# Altium footprint library zxevo.PcbLib: 77 footprints (part 2 of 5)
Each footprint in its own frame and in the unit in brackets; x right, y up, seen from the top. Pads: shape width x height; smd on the part's side, far side on the other; paste and mask are expansions set on the pad; w line width, h text height; cw(c..) or ccw(c..) is an arc to the next point about the centre after c.
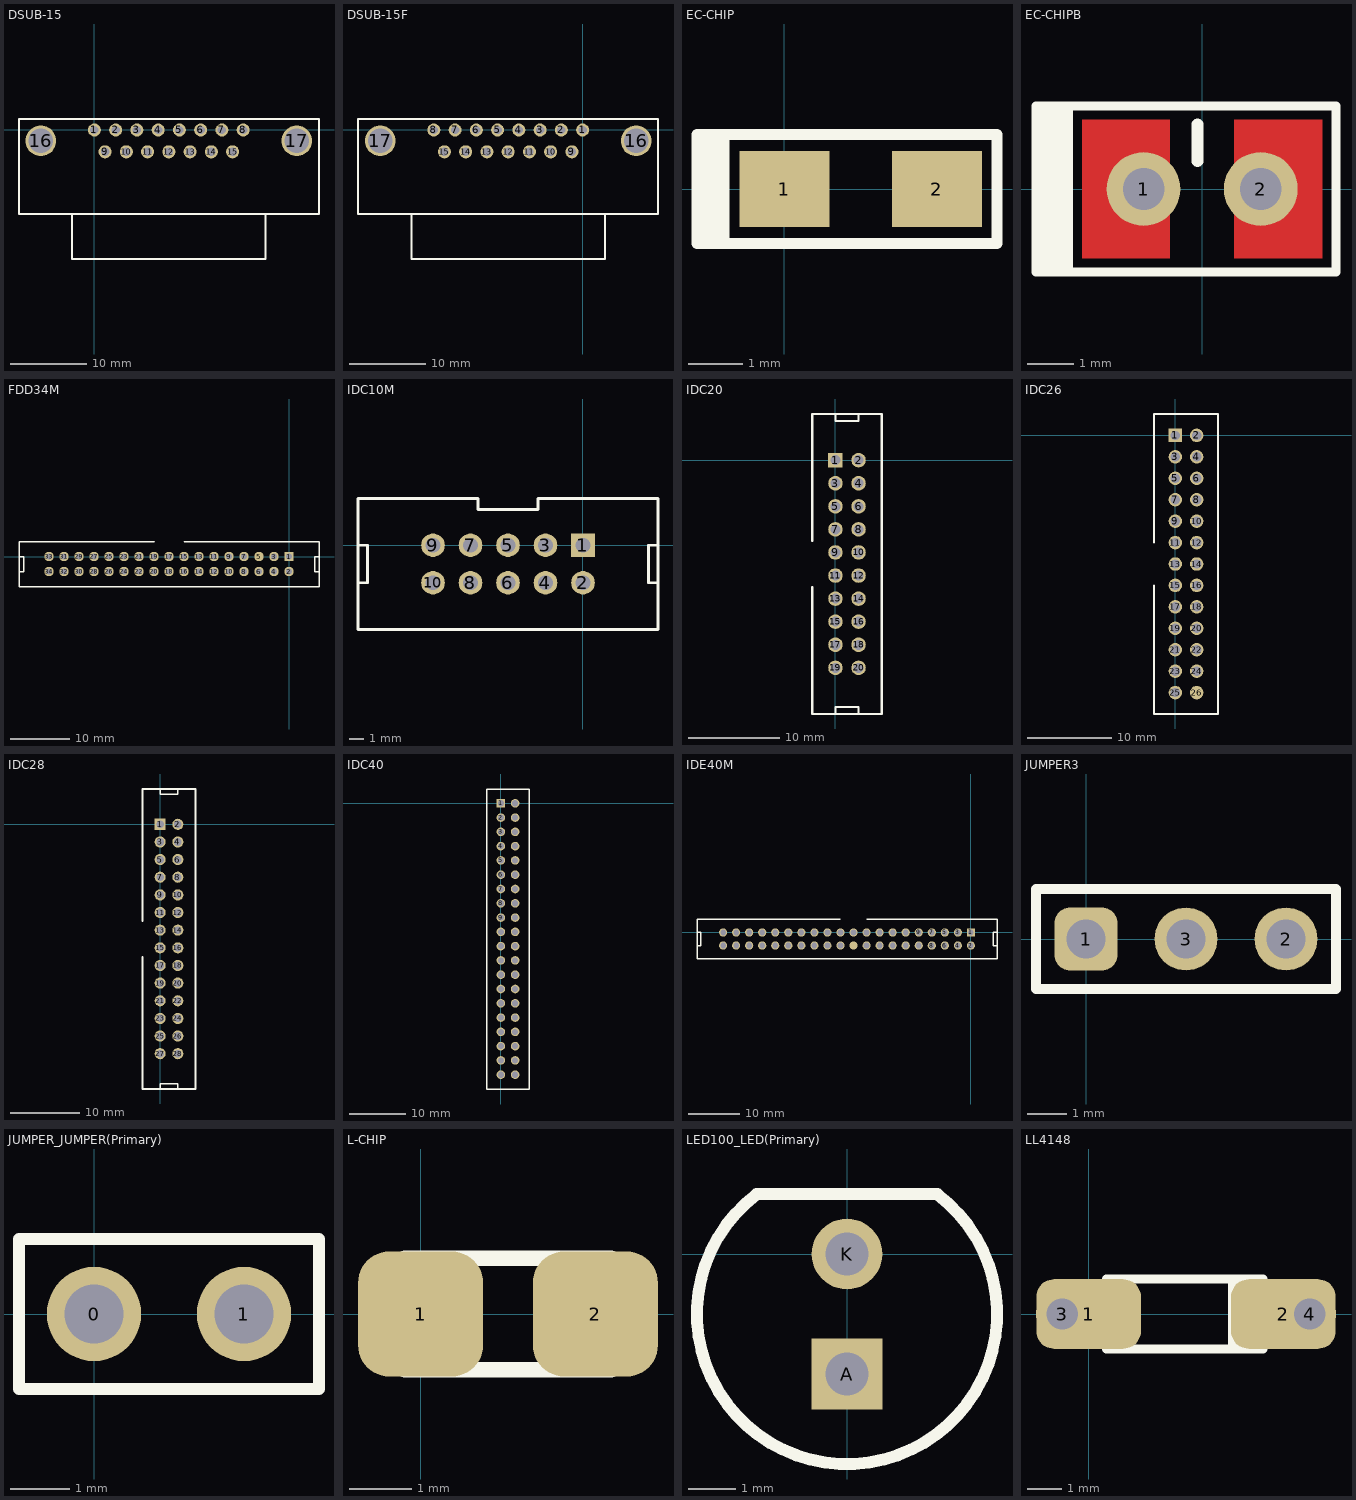
[diagram p1: the footprints below, top view; thin cyan lines are the x and y axes]

## DSUB-15 [mm]
pads (17):
  round 1.7 hole 1.1: 1(0,0) 2(2.77,0) 3(5.54,0) 4(8.31,0) 5(11.08,0) 6(13.85,0) 7(16.62,0) 8(19.39,0) 9(1.385,-2.84) 10(4.155,-2.84) 11(6.925,-2.84) 12(9.695,-2.84) 13(12.465,-2.84) 14(15.235,-2.84) 15(18.005,-2.84)
  round 4 hole 3.2: 16(-6.98,-1.42) 17(26.37,-1.42)
Top Overlay:
  lines w0.254: -2.93,-10.94 -2.93,-16.84 22.27,-16.84 22.27,-10.94 ; -9.83,-10.94 -9.83,1.46 29.27,1.46 29.27,-10.94 -9.83,-10.94

## DSUB-15F [mm]
pads (17):
  round 1.7 hole 1.1: 1(0,0) 2(-2.77,0) 3(-5.54,0) 4(-8.31,0) 5(-11.08,0) 6(-13.85,0) 7(-16.62,0) 8(-19.39,0) 9(-1.385,-2.84) 10(-4.155,-2.84) 11(-6.925,-2.84) 12(-9.695,-2.84) 13(-12.465,-2.84) 14(-15.235,-2.84) 15(-18.005,-2.84)
  round 4 hole 3.2: 16(6.98,-1.42) 17(-26.37,-1.42)
Top Overlay:
  lines w0.254: -22.27,-10.94 -22.27,-16.84 2.93,-16.84 2.93,-10.94 ; -29.27,-10.94 -29.27,1.46 9.83,1.46 9.83,-10.94 -29.27,-10.94

## EC-CHIP [mm]
pads (2):
  rect 1.65x1.4 smd: 1(0,0) 2(2.8,0)
Top Overlay:
  rectangle: -1.6,-1 -1,1
  lines w0.2: -1.6,-1 -1.6,1 3.9,1 3.9,-1 -1.6,-1
3D body "T520A476M006ATE150.STEP": height 1.8, standoff 0, extent -0.2,-0.8 3,0.8

## EC-CHIPB [mm]
pads (2):
  round 1.6 hole 0.9 unplated: 1(-1.27,0) 2(1.27,0)
Top Layer:
  region: -2.6,-1.5 -0.7,-1.5 -0.7,1.5 -2.6,1.5
  region: 2.6,1.5 0.7,1.5 0.7,-1.5 2.6,-1.5
Top Overlay:
  rectangle: -3.6,-1.8 -2.8,1.8
  lines w0.2: -3.6,-1.8 -3.6,1.8 2.9,1.8 2.9,-1.8 -3.6,-1.8
  lines w0.254: -0.1,0.6 -0.1,1.4

## FDD34M [mm]
pads (34):
  rect 1.6x1.6 hole 1.1: 1(0,0)
  round 1.6 hole 1.1: 2(0,-2.54) 3(-2.54,0) 4(-2.54,-2.54) 6(-5.08,-2.54) 7(-7.62,0) 8(-7.62,-2.54) 9(-10.16,0) 10(-10.16,-2.54) 11(-12.7,0) 12(-12.7,-2.54) 13(-15.24,0) 14(-15.24,-2.54) 15(-17.78,0) 16(-17.78,-2.54) 17(-20.32,0) 18(-20.32,-2.54) 19(-22.86,0) 20(-22.86,-2.54) 21(-25.4,0) 22(-25.4,-2.54) 23(-27.94,0) 24(-27.94,-2.54) 25(-30.48,0) 26(-30.48,-2.54) 27(-33.02,0) 28(-33.02,-2.54) 29(-35.56,0) 30(-35.56,-2.54) 31(-38.1,0) 32(-38.1,-2.54) 33(-40.64,0) 34(-40.64,-2.54)
  round 1.6 smd: 5(-5.08,0)
Top Overlay:
  lines w0.254: -45.72,-2.54 -44.958,-2.54 -44.958,0 -45.72,0 ; -22.86,2.54 -45.72,2.54 -45.72,-5.08 5.08,-5.08 5.08,2.54 -17.78,2.54 ; 5.08,-2.54 4.318,-2.54 4.318,0 5.08,0

## IDC10M [mm]
pads (10):
  rect 1.6x1.6 hole 1: 1(0,0)
  round 1.6 hole 1: 2(0,-2.54) 3(-2.54,0) 4(-2.54,-2.54) 5(-5.08,0) 6(-5.08,-2.54) 7(-7.62,0) 8(-7.62,-2.54) 9(-10.16,0) 10(-10.16,-2.54)
Top Overlay:
  lines w0.2: -15.24,-2.54 -14.605,-2.54 -14.605,0 -15.24,0 ; 5.08,-2.54 4.445,-2.54 4.445,0 5.08,0 ; -15.24,-5.715 -15.24,3.175 -7.112,3.175 -7.112,2.413 -3.048,2.413 -3.048,3.175 5.08,3.175 5.08,-5.715 -15.24,-5.715
3D body "2-1761603-3 (IDC 10M).stp": height 9, standoff -2.81, extent -15.21,-6.1 5.11,3.12

## IDC20 [mm]
pads (20):
  rect 1.6x1.6 hole 1.1: 1(0,0)
  round 1.6 hole 1.1: 2(2.54,0) 3(0,-2.54) 4(2.54,-2.54) 5(0,-5.08) 6(2.54,-5.08) 7(0,-7.62) 8(2.54,-7.62) 9(0,-10.16) 10(2.54,-10.16) 11(0,-12.7) 12(2.54,-12.7) 13(0,-15.24) 14(2.54,-15.24) 15(0,-17.78) 16(2.54,-17.78) 17(0,-20.32) 18(2.54,-20.32) 19(0,-22.86) 20(2.54,-22.86)
Top Overlay:
  lines w0.254: -2.54,-13.97 -2.54,-27.94 5.08,-27.94 5.08,5.08 -2.54,5.08 -2.54,-8.89 ; 0,-27.94 0,-27.178 2.54,-27.178 2.54,-27.94 ; 0,5.08 0,4.318 2.54,4.318 2.54,5.08
3D body "User Library-DS1013-20S (IDC-20MS CONNFLY).step": height 9.1, standoff -3.5, extent -3.25,-27.975 5.65,5.225

## IDC26 [mm]
pads (26):
  rect 1.6x1.6 hole 1.1: 1(0,0)
  round 1.6 hole 1.1: 2(2.54,0) 3(0,-2.54) 4(2.54,-2.54) 5(0,-5.08) 6(2.54,-5.08) 7(0,-7.62) 8(2.54,-7.62) 9(0,-10.16) 10(2.54,-10.16) 11(0,-12.7) 12(2.54,-12.7) 13(0,-15.24) 14(2.54,-15.24) 15(0,-17.78) 16(2.54,-17.78) 17(0,-20.32) 18(2.54,-20.32) 19(0,-22.86) 20(2.54,-22.86) 21(0,-25.4) 22(2.54,-25.4) 23(0,-27.94) 24(2.54,-27.94) 25(0,-30.48)
  round 1.6 smd: 26(2.54,-30.48)
Top Overlay:
  lines w0.254: -2.54,-17.78 -2.54,-33.02 5.08,-33.02 5.08,2.54 -2.54,2.54 -2.54,-12.7

## IDC28 [mm]
pads (28):
  rect 1.6x1.6 hole 1.1: 1(0,0)
  round 1.6 hole 1.1: 2(2.54,0) 3(0,-2.54) 4(2.54,-2.54) 5(0,-5.08) 6(2.54,-5.08) 7(0,-7.62) 8(2.54,-7.62) 9(0,-10.16) 10(2.54,-10.16) 11(0,-12.7) 12(2.54,-12.7) 13(0,-15.24) 14(2.54,-15.24) 15(0,-17.78) 16(2.54,-17.78) 17(0,-20.32) 18(2.54,-20.32) 19(0,-22.86) 20(2.54,-22.86) 21(0,-25.4) 22(2.54,-25.4) 23(0,-27.94) 24(2.54,-27.94) 25(0,-30.48) 26(2.54,-30.48) 27(0,-33.02) 28(2.54,-33.02)
Top Overlay:
  lines w0.254: -2.54,-19.05 -2.54,-38.1 5.08,-38.1 5.08,5.08 -2.54,5.08 -2.54,-13.97 ; 0,-38.1 0,-37.338 2.54,-37.338 2.54,-38.1 ; 0,5.08 0,4.318 2.54,4.318 2.54,5.08

## IDC40 [mil]
pads (40):
  rect 60x60 hole 43.31: 1(0,0)
  round 60 hole 43.31: 2(0,-100) 3(0,-200) 4(0,-300) 5(0,-400) 6(0,-500) 7(0,-600) 8(0,-700) 9(0,-800) 10(0,-900) 11(0,-1000) 12(0,-1100) 13(0,-1200) 14(0,-1300) 15(0,-1400) 16(0,-1500) 17(0,-1600) 18(0,-1700) 19(0,-1800) 20(0,-1900) 21(100,0) 22(100,-100) 23(100,-200) 24(100,-300) 25(100,-400) 26(100,-500) 27(100,-600) 28(100,-700) 29(100,-800) 30(100,-900) 31(100,-1000) 32(100,-1100) 33(100,-1200) 34(100,-1300) 35(100,-1400) 36(100,-1500) 37(100,-1600) 38(100,-1700) 39(100,-1800) 40(100,-1900)
Top Overlay:
  lines w10: -100,-2000 200,-2000 200,100 -100,100 -100,-2000

## IDE40M [mm]
pads (40):
  rect 1.6x1.6 hole 1.1 unplated: 1(0,0)
  round 1.6 hole 1.1: 2(0,-2.54) 3(-2.54,0) 4(-2.54,-2.54) 5(-5.08,0) 6(-5.08,-2.54) 7(-7.62,0) 8(-7.62,-2.54) 9(-10.16,0) 10(-10.16,-2.54) 11(-12.7,0) 12(-12.7,-2.54) 13(-15.24,0) 14(-15.24,-2.54) 15(-17.78,0) 16(-17.78,-2.54) 17(-20.32,0) 18(-20.32,-2.54) 19(-22.86,0) 21(-25.4,0) 22(-25.4,-2.54) 23(-27.94,0) 24(-27.94,-2.54) 25(-30.48,0) 26(-30.48,-2.54) 27(-33.02,0) 28(-33.02,-2.54) 29(-35.56,0) 30(-35.56,-2.54) 31(-38.1,0) 32(-38.1,-2.54) 33(-40.64,0) 34(-40.64,-2.54) 35(-43.18,0) 36(-43.18,-2.54) 37(-45.72,0) 38(-45.72,-2.54) 39(-48.26,0) 40(-48.26,-2.54)
  round 1.6 smd: 20(-22.86,-2.54)
Top Overlay:
  lines w0.254: -53.34,-2.54 -52.578,-2.54 -52.578,0 -53.34,0 ; -25.4,2.54 -53.34,2.54 -53.34,-5.08 5.08,-5.08 5.08,2.54 -20.32,2.54 ; 5.08,-2.54 4.318,-2.54 4.318,0 5.08,0

## JUMPER3 [mm]
pads (3):
  rrect50% 1.6x1.6 hole 1: 1(0,0)
  round 1.6 hole 1: 2(5.08,0) 3(2.54,0)
Top Overlay:
  lines w0.254: -1.27,-1.27 6.35,-1.27 6.35,1.27 -1.27,1.27 -1.27,-1.27

## JUMPER_JUMPER(Primary) [mm]
pads (2):
  round 1.6 hole 1: 0(0,0) 1(2.54,0)
Top Overlay:
  lines w0.2: -1.27,-1.27 -1.27,1.27 3.81,1.27 3.81,-1.27 -1.27,-1.27
3D body "User Library-PLS2.STEP": height 8.54, standoff -3, extent -1.27,-1.27 3.81,1.27

## L-CHIP [mm]
pads (2):
  rrect50% 2x2 smd: 1(0,0) 2(2.794,0)
Top Overlay:
  lines w0.25: -0.254,-0.889 -0.254,0.889 3.048,0.889 3.048,-0.889 -0.254,-0.889

## LED100_LED(Primary) [mm]
pads (2):
  rect 1.5x1.5 hole 0.9: A(0,-2.54)
  round 1.5 hole 0.9: K(0,0)
Top Overlay:
  lines w0.254: -1.911,1.266 ccw(c0,-1.27) 1.911,1.266 ; -1.905,1.27 1.905,1.27

## LL4148 [mm]
pads (4):
  rrect50% 3x2 smd: 1(0,0) 2(5.588,0)
  round 1.5 hole 0.9 unplated: 3(-0.762,0) 4(6.35,0)
Top Overlay:
  region: 4.008,1 4.008,-1 4.508,-1 4.508,1
  lines w0.254: 0.508,-1 5.008,-1 5.008,1 0.508,1 0.508,-1